# Altium footprint library Resistors.PcbLib: 7 footprints
Each footprint in its own frame and in the unit in brackets; x right, y up, seen from the top. Pads: shape width x height; smd on the part's side, far side on the other; paste and mask are expansions set on the pad; w line width, h text height; cw(c..) or ccw(c..) is an arc to the next point about the centre after c.
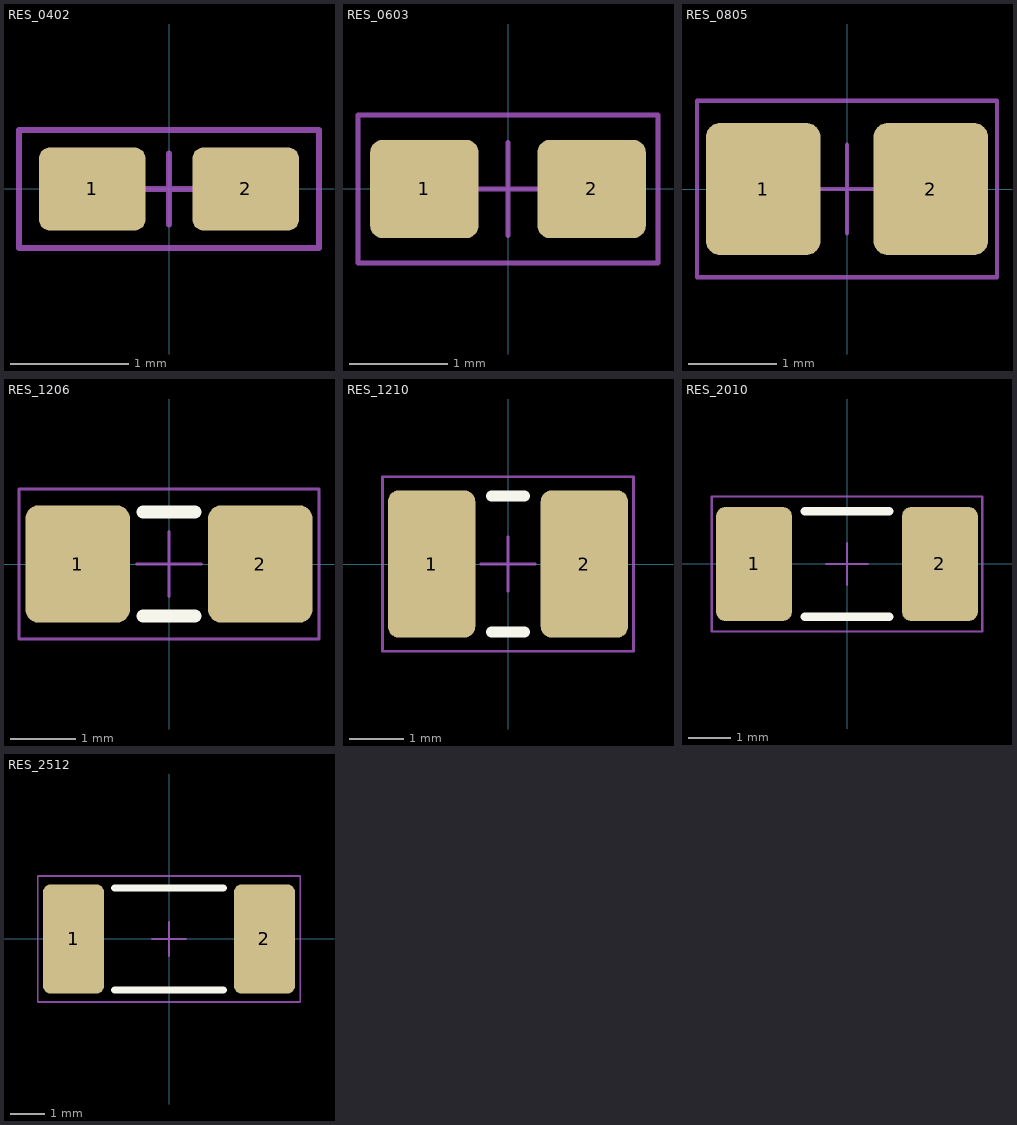
[diagram p0: the footprints below, top view; thin cyan lines are the x and y axes]

## RES_0402 [mm] "0402 (1005 Metric) SMD Resistor, Reference IPC-SM-782"
height 0.4
pads (2):
  rrect25% 0.9x0.7 smd: 1(-0.65,0) 2(0.65,0)
Top Courtyard:
  lines w0.05: -0.3,0 0.3,0 ; 0,-0.3 0,0.3 ; -1.27,-0.5 -1.27,0.5 1.27,0.5 1.27,-0.5 -1.27,-0.5
3D body "RES_0402.step": height 0.4, standoff 0, extent -0.55,-0.3 0.55,0.3

## RES_0603 [mm] "0603 (1608 Metric) SMD Resistor, Reference IPC-SM-782"
height 0.6
pads (2):
  rrect25% 1.1x1 smd: 1(-0.85,0) 2(0.85,0)
Top Courtyard:
  lines w0.05: -0.475,0 0.475,0 ; 0,-0.475 0,0.475 ; -1.524,-0.75 -1.524,0.75 1.524,0.75 1.524,-0.75 -1.524,-0.75
3D body "RES_0603.step": height 0.6, standoff 0, extent -0.85,-0.475 0.85,0.475

## RES_0805 [mm] "0805 (2012 Metric) SMD Resistor, Reference IPC-SM-782"
height 0.65
pads (2):
  rrect25% 1.3x1.5 smd: 1(-0.95,0) 2(0.95,0)
Top Courtyard:
  lines w0.05: -0.5,0 0.5,0 ; 0,-0.5 0,0.5 ; -1.7,-1 1.7,-1 1.7,1 -1.7,1 -1.7,-1
3D body "RES_0805.step": height 0.65, standoff 0, extent -1.075,-0.7 1.075,0.7

## RES_1206 [mm] "1206 (3216 Metric) SMD Resistor, Reference IPC-SM-782"
height 0.75
pads (2):
  rrect25% 1.6x1.8 smd: 1(-1.4,0) 2(1.4,0)
Top Overlay:
  lines w0.2: -0.4,-0.8 0.4,-0.8 ; -0.4,0.8 0.4,0.8
Top Courtyard:
  lines w0.05: -0.5,0 0.5,0 ; 0,-0.5 0,0.5 ; -2.3,-1.15 -2.3,1.15 2.3,1.15 2.3,-1.15 -2.3,-1.15
3D body "RES_1206.step": height 0.75, standoff 0, extent -1.675,-0.875 1.675,0.875

## RES_1210 [mm] "1210 (3225 Metric) SMD Resistor, Reference IPC-SM-782"
height 0.71
pads (2):
  rrect25% 1.6x2.7 smd: 1(-1.4,0) 2(1.4,0)
Top Overlay:
  lines w0.2: -0.3,-1.25 0.3,-1.25 ; -0.3,1.25 0.3,1.25
Top Courtyard:
  lines w0.05: -0.5,0 0.5,0 ; 0,-0.5 0,0.5 ; -2.3,-1.6 -2.3,1.6 2.3,1.6 2.3,-1.6 -2.3,-1.6
3D body "RES_1210.step": height 0.71, standoff 0, extent -1.675,-1.32 1.675,1.32

## RES_2010 [mm] "2010 (5025 Metric) SMD Resistor, Reference IPC-SM-782"
height 0.71
pads (2):
  rrect25% 1.8x2.7 smd: 1(-2.2,0) 2(2.2,0)
Top Overlay:
  lines w0.2: -1,-1.25 1,-1.25 ; -1,1.25 1,1.25
Top Courtyard:
  lines w0.05: -0.5,0 0.5,0 ; 0,-0.5 0,0.5 ; -3.2,-1.6 3.2,-1.6 3.2,1.6 -3.2,1.6 -3.2,-1.6
3D body "RES_2010.step": height 0.71, standoff 0, extent -2.575,-1.325 2.575,1.325

## RES_2512 [mm] "2512 (6432 Metric) SMD Resistor, Reference IPC-SM-782"
height 0.71
pads (2):
  rrect25% 1.8x3.2 smd: 1(-2.8,0) 2(2.8,0)
Top Overlay:
  lines w0.2: -1.6,-1.5 1.6,-1.5 ; -1.6,1.5 1.6,1.5
Top Courtyard:
  lines w0.05: -0.5,0 0.5,0 ; 0,-0.5 0,0.5 ; -3.85,-1.85 -3.85,1.85 3.85,1.85 3.85,-1.85 -3.85,-1.85
3D body "Chip2PinSM127P600-8N.step": height 0.71, standoff 0, extent -3.225,-1.6 3.225,1.6